# EAGLE library part MOTOR-DRIVER-TA7281FG (library gclue)
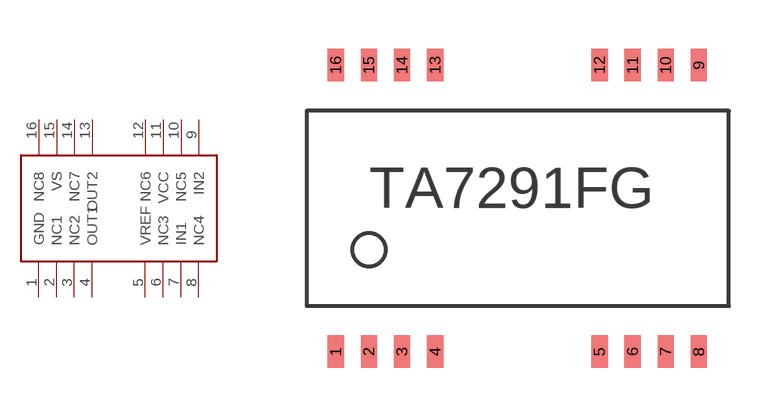
[diagram p5: symbol with the pads of MOTOR-DRIVER-TA7291FG; footprint MOTOR-DRIVER-TA7291FG]

Designator prefix -

## MOTOR-DRIVER-TA7281FG  [MOTOR-DRIVER-TA7291FG]
1  GND
2  NC1
3  NC2
4  OUT1
5  VREF
6  NC3
7  IN1
8  NC4
9  IN2
10  NC5
11  VCC
12  NC6
13  OUT2
14  NC7
15  VS
16  NC8

## Footprint MOTOR-DRIVER-TA7291FG (pad centres in mm)
smd 0.5 x 1: 1 -6.1,-4.41; 2 -5.08,-4.41; 3 -4.06,-4.41; 4 -3.04,-4.41; 5 2.02,-4.41; 6 3.04,-4.41; 7 4.06,-4.41; 8 5.08,-4.41; 9 5.08,4.41; 10 4.06,4.41; 11 3.04,4.41; 12 2.02,4.41; 13 -3.04,4.41; 14 -4.06,4.41; 15 -5.08,4.41; 16 -6.1,4.41